# Altium integrated library M95080-WMN6P.IntLib: 1 symbol
Pins are listed as number, name and electrical type; pins without a type are passive.

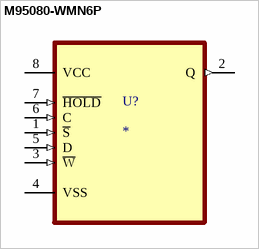
[diagram p0: symbol M95080-WMN6P]

## M95080-WMN6P
designator U?
16 Kbit and 8 Kbit serial SPI bus EEPROM; MP: M95080-WMN6P; Package: None; Price: None; Value: *; Availability: Unavailable
footprint SOIC127P600X175-8N
pins: 1 ~{S} (in), 2 Q (out), 3 ~{W} (in), 4 VSS, 5 D (in), 6 C (in), 7 ~{HOLD} (in), 8 VCC (power)